# EAGLE library part GRPB142VWQP (library con-sullins-grpb)
HEADER
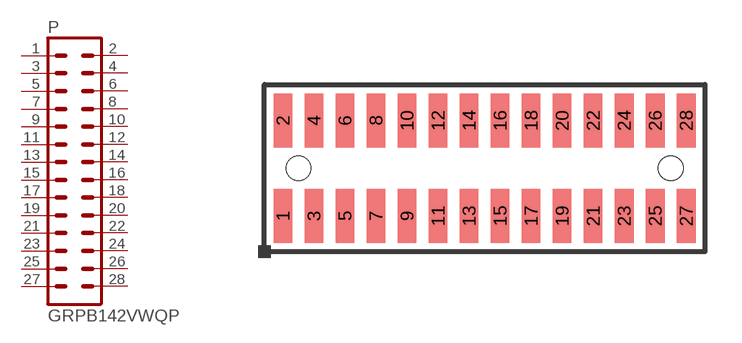
[diagram p11: symbol with the pads of GRPB142VWQP; footprint GRPB142VWQP]

Designator prefix P

## GRPB142VWQP  [GRPB142VWQP]
1  1  pas
2  2  pas
3  3  pas
4  4  pas
5  5  pas
6  6  pas
7  7  pas
8  8  pas
9  9  pas
10  10  pas
11  11  pas
12  12  pas
13  13  pas
14  14  pas
15  15  pas
16  16  pas
17  17  pas
18  18  pas
19  19  pas
20  20  pas
21  21  pas
22  22  pas
23  23  pas
24  24  pas
25  25  pas
26  26  pas
27  27  pas
28  28  pas

## Footprint GRPB142VWQP (pad centres in mm)
HEADER
smd 0.762 x 2.21: 1 -8.255,-1.956; 2 -8.255,1.956; 3 -6.985,-1.956; 4 -6.985,1.956; 5 -5.715,-1.956; 6 -5.715,1.956; 7 -4.445,-1.956; 8 -4.445,1.956; 9 -3.175,-1.956; 10 -3.175,1.956; 11 -1.905,-1.956; 12 -1.905,1.956; 13 -0.635,-1.956; 14 -0.635,1.956; 15 0.635,-1.956; 16 0.635,1.956; 17 1.905,-1.956; 18 1.905,1.956; 19 3.175,-1.956; 20 3.175,1.956; 21 4.445,-1.956; 22 4.445,1.956; 23 5.715,-1.956; 24 5.715,1.956; 25 6.985,-1.956; 26 6.985,1.956; 27 8.255,-1.956; 28 8.255,1.956
hole 1 at -7.62,0
hole 1 at 7.62,0